# EAGLE library part DISPLAY_16X2_90DEG (library 2021-07-02 OrangeHat Library)
Display 16X2 90° mounting 16pin 2.54mm spacing
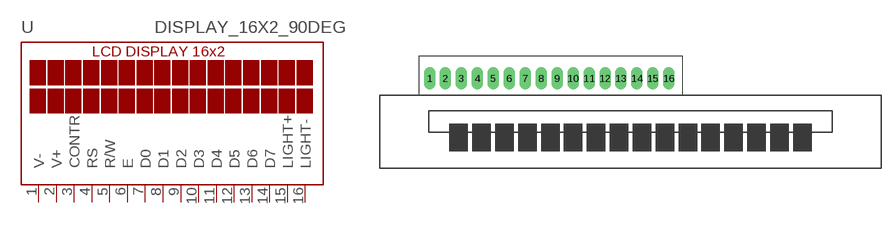
[diagram p5: symbol with the pads of DISPLAY_16X2_90DEG; footprint DISPLAY_16X2_90DEG]

Designator prefix -

## DISPLAY_16X2_90DEG  [DISPLAY_16X2_90DEG]
1  V-  pwr
2  V+  pwr
3  CONTR  in
4  RS  in
5  R/W  in
6  E  in
7  D0  in
8  D1  in
9  D2  in
10  D3  in
11  D4  in
12  D5  in
13  D6  in
14  D7  in
15  LIGHT+  pwr
16  LIGHT-  pwr

## Footprint DISPLAY_16X2_90DEG (pad centres in mm)
Tuxgraphics LCD display 16x2 characters reflective, without background light Source: tuxgr_12x2_r2.pdf
drill 1.2 long: 1 8.005,14.23; 2 10.545,14.23; 3 13.085,14.23; 4 15.625,14.23; 5 18.165,14.23; 6 20.705,14.23; 7 23.245,14.23; 8 25.785,14.23; 9 28.325,14.23; 10 30.865,14.23; 11 33.405,14.23; 12 35.945,14.23; 13 38.485,14.23; 14 41.025,14.23; 15 43.565,14.23; 16 46.105,14.23